# Altium footprint library DVI-I.PcbLib: 1 footprints
Each footprint in its own frame and in the unit in brackets; x right, y up, seen from the top. Pads: shape width x height; smd on the part's side, far side on the other; paste and mask are expansions set on the pad; w line width, h text height; cw(c..) or ccw(c..) is an arc to the next point about the centre after c.
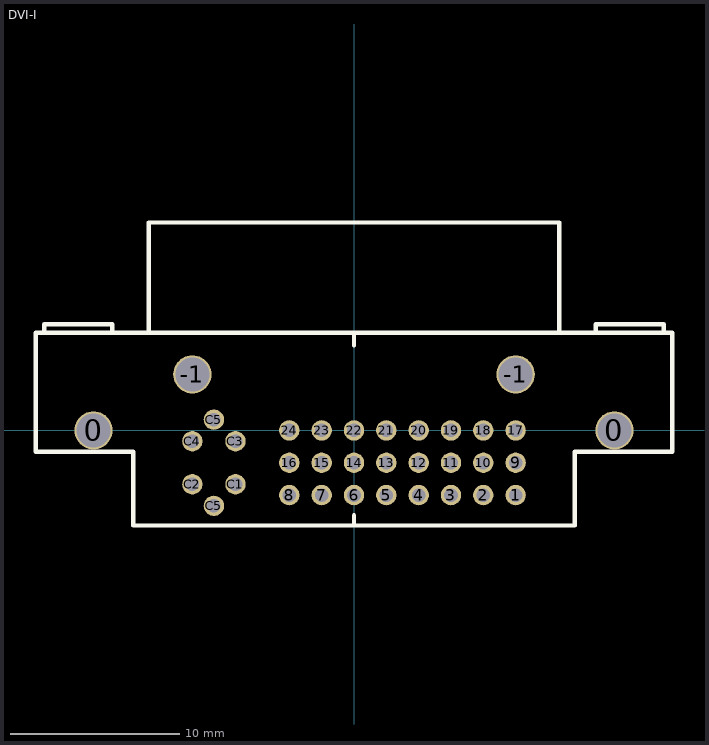
[diagram p0: the footprint, top view; thin cyan lines are the x and y axes]

## DVI-I [mm]
height 10.3
pads (34):
  round 2.254 hole 2: 0(-15.35,0) 0(15.35,0) -1(-9.525,3.3) -1(9.525,3.3)
  round 1.2 hole 0.8: 1(9.525,-3.81) 2(7.62,-3.81) 3(5.715,-3.81) 4(3.81,-3.81) 5(1.905,-3.81) 6(0,-3.81) 7(-1.905,-3.81) 8(-3.81,-3.81) 9(9.525,-1.905) 10(7.62,-1.905) 11(5.715,-1.905) 12(3.81,-1.905) 13(1.905,-1.905) 14(0,-1.905) 15(-1.905,-1.905) 16(-3.81,-1.905) 17(9.525,0) 18(7.62,0) 19(5.715,0) 20(3.81,0) 21(1.905,0) 22(0,0) 23(-1.905,0) 24(-3.81,0) C1(-6.985,-3.175) C2(-9.525,-3.175) C3(-6.985,-0.635) C4(-9.525,-0.635) C5(-8.255,-4.445) C5(-8.255,0.635)
Top Overlay:
  lines w0.254: -18.25,5.75 -18.25,6.25 -14.25,6.25 -14.25,5.75 ; -12.1,5.75 -12.1,12.25 12.1,12.25 12.1,5.75 ; 0,-5 0,-5.6 ; 0,5 0,5.75 ; 14.25,5.75 14.25,6.25 18.25,6.25 18.25,5.75 ; 0,-5.6 -11.35,-5.6 -13,-5.6 -13,-1.25 -18.75,-1.25 -18.75,5.75 18.75,5.75 18.75,-1.25 13,-1.25 13,-5.6 0,-5.6